# Altium schematic symbol library LMR34206FSC5RNXTQ1.SchLib: 1 symbol
Pins are listed as number, name and electrical type; pins without a type are passive.

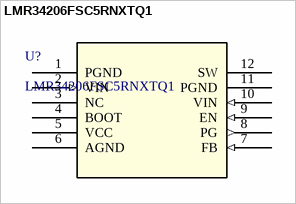
[diagram p0: symbol LMR34206FSC5RNXTQ1]

## LMR34206FSC5RNXTQ1
designator U?
4.2-V to 42-V, 0.6-A ultra-small synchronous step-down converter 12-VQFN-HR -40 to 125; Manufacturer_Name: Texas Instruments; Copyright: Copyright (C) 2026 Ultra Librarian. All rights reserved.; Manufacturer_Part_Number: LMR34206FSC5RNXTQ1; Datasheet: https://www.ti.com/lit/gpn/lmr34206-q1; RefDes: RefDes; Type: Type
footprint RNX12_TEX
pins: 1 PGND (power), 2 VIN (in), 3 NC, 4 BOOT, 5 VCC (power), 6 AGND (power), 7 FB (in), 8 PG (out), 9 EN (in), 10 VIN (in), 11 PGND (power), 12 SW